# EAGLE library part 178.6165.0001 (library 178.6165.0001)
Fuse Holder 80V Pin Through Hole Fuse Holder 80V Pin Through Hole Source: Datasheet <https://componentsearchengine.com/Datasheets/1/178.6165.0001.pdf>
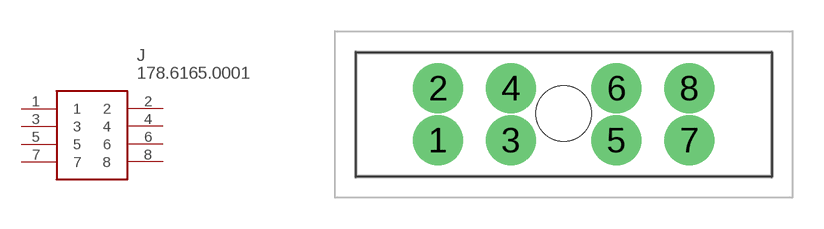
[diagram p0: symbol with the pads of 17861650002; footprint 17861650002]

Designator prefix J

## 178.6165.0001 (Description: Fuse Holder 80V Pin Through Hole Fuse Holder 80V Pin Through Hole; Height: 17mm; Manufacturer_Name: LITTELFUSE; Manufacturer_Part_Number: 178.6165.0001; Mouser_Part_Number: 576-178.6165.0001; Mouser_Price-Stock: https://www.mouser.com/Search/Refine.aspx?Keyword=576-178.6165.0001)  [17861650002]
1  1
2  2
3  3
4  4
5  5
6  6
7  7
8  8

## Footprint 17861650002 (pad centres in mm)
178.6165.0002
drill 1.6 pad 2.4: 1 -6.04,-1.25; 2 -6.04,1.25; 3 -2.54,-1.25; 4 -2.54,1.25; 5 2.54,-1.25; 6 2.54,1.25; 7 6.04,-1.25; 8 6.04,1.25
hole 2.65 at 0,0.045